# Altium schematic symbol library Mechanicals.SchLib: 6 symbols
Pins are listed as number, name and electrical type; pins without a type are passive.

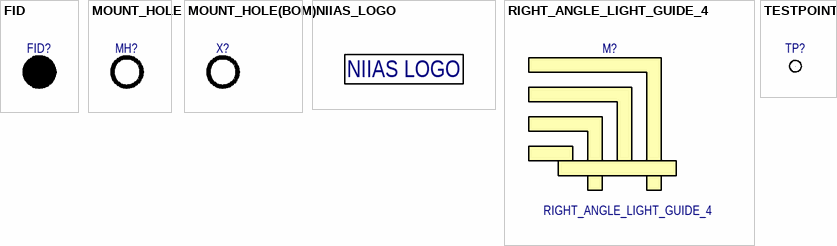
[diagram p0: symbols FID to TESTPOINT]

## FID
designator FID?  (value not drawn)  (no BOM)
Fiducials
pins: 1

## MOUNT_HOLE
designator MH?  (value not drawn)  (no BOM)
Крепёжные отверстия
pins: 1

## MOUNT_HOLE(BOM)
designator X?  (value not drawn)
Mount hole символ с добавлением в ВОМ (применяется для стоек)
pins: 1

## NIIAS_LOGO
designator ?  (value not drawn)  (no BOM)
Логотип НИИАС
text: NIIAS LOGO

## RIGHT_ANGLE_LIGHT_GUIDE_4
designator M?
Угловой световод на 4 светодиода

## TESTPOINT
designator TP?  (value not drawn)  (no BOM)
pins: 1